# Altium footprint library 封装.PcbLib: 10 footprints
Each footprint in its own frame and in the unit in brackets; x right, y up, seen from the top. Pads: shape width x height; smd on the part's side, far side on the other; paste and mask are expansions set on the pad; w line width, h text height; cw(c..) or ccw(c..) is an arc to the next point about the centre after c.
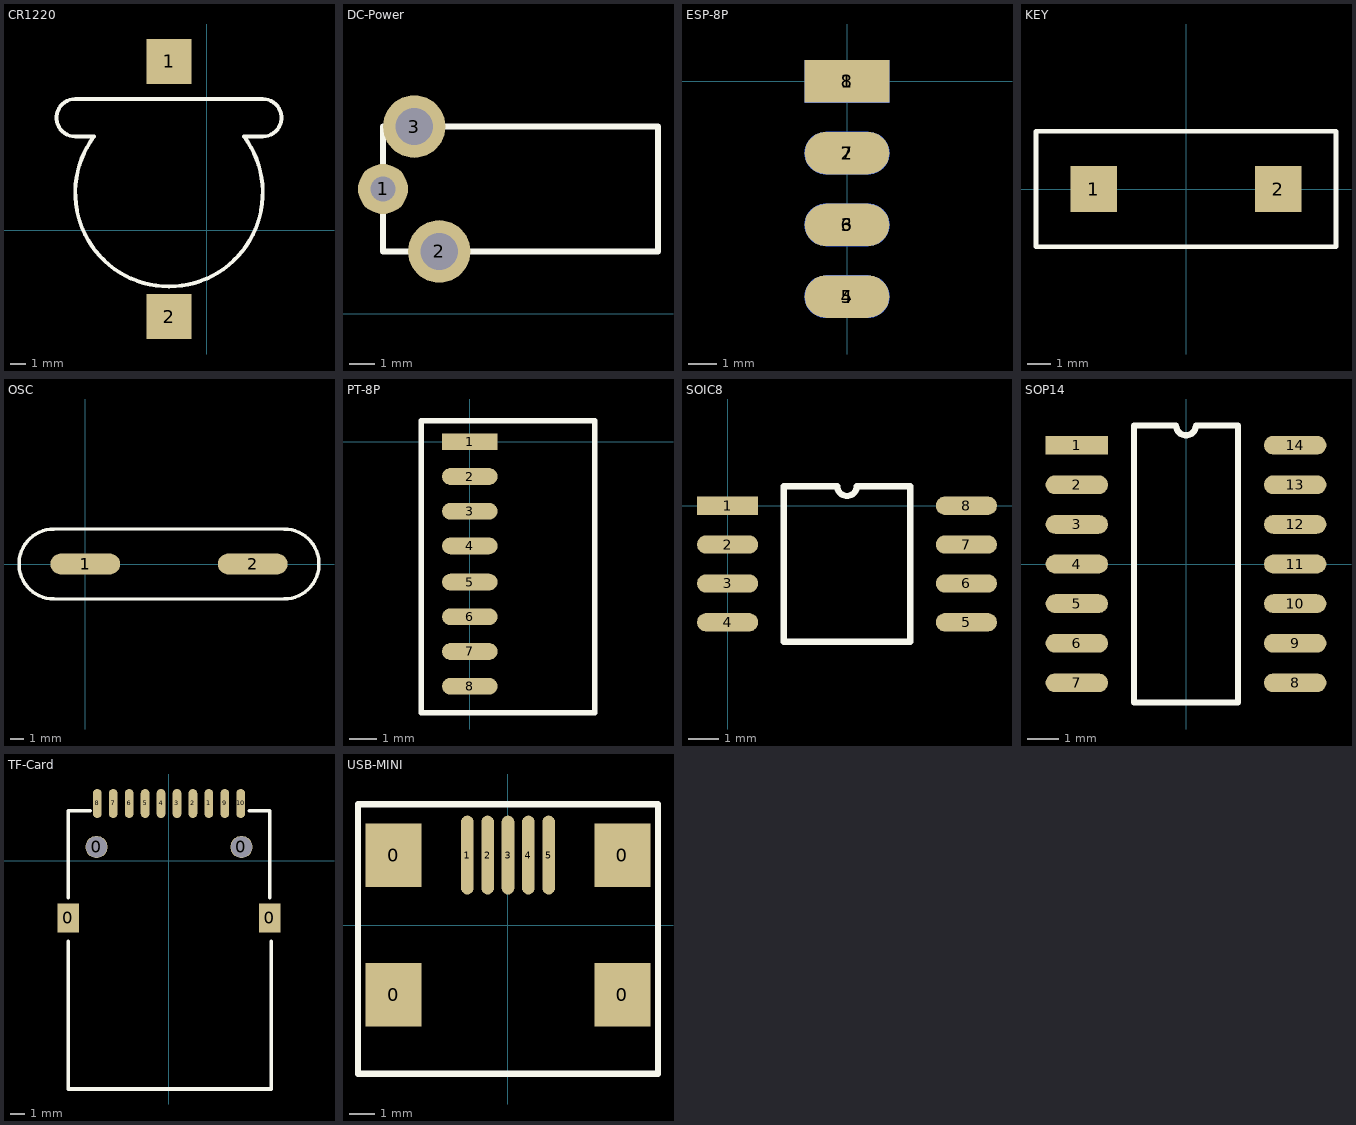
[diagram p0: the footprints below, top view; thin cyan lines are the x and y axes]

## CR1220 [mm]
pads (2):
  rect 3x3 smd: 1(-2.5,11.25) 2(-2.5,-5.75)
Top Overlay:
  lines w0.254: -8.75,6.25 cw(c-8.75,7.5) -8.75,8.75 3.75,8.75 cw(c3.75,7.5) 3.75,6.25 2.5,6.25 cw(c-2.5,2.5) -7.5,6.25 -8.75,6.25

## DC-Power [mm]
pads (3):
  round 2 hole 1: 1(-12.5,5)
  round 2.5 hole 1.5: 2(-10.25,2.5) 3(-11.25,7.5)
Top Overlay:
  lines w0.254: -12.5,2.5 -12.5,7.5 -1.5,7.5 -1.5,2.5 -12.5,2.5

## ESP-8P [mm]
pads (8):
  rect 3x1.5 smd far side: 1(0,0)
  oval 3x1.5 smd far side: 2(0,-2.54) 3(0,-5.08) 4(0,-7.62)
  oval 3x1.5 smd: 5(0,-7.62) 6(0,-5.08) 7(0,-2.54)
  rect 3x1.5 smd: 8(0,0)

## KEY [mm]
pads (2):
  rect 2x2 smd: 1(-4,0) 2(4,0)
Top Overlay:
  lines w0.2: -6.5,-2.5 6.5,-2.5 6.5,2.5 -6.5,2.5 -6.5,0 -6.5,-2.5

## OSC [mm]
pads (2):
  oval 5x1.5 smd: 1(0,0) 2(12,0)
Top Overlay:
  lines w0.2: -2.25,-2.5 14.25,-2.5 ; -2.25,2.5 14.25,2.5
  lines w0.254: -2.25,-2.5 cw(c-2.25,0) -2.25,2.5 ; 14.25,-2.5 ccw(c14.25,0) 14.25,2.5

## PT-8P [mm]
pads (8):
  rect 2x0.6 smd: 1(0,0)
  oval 2x0.6 smd: 2(0,-1.25) 3(0,-2.5) 4(0,-3.75) 5(0,-5.05) 6(0,-6.3) 7(0,-7.55) 8(0,-8.8)
Top Overlay:
  lines w0.2: -1.75,-9.75 -1.75,0.75 4.5,0.75 4.5,-9.75 -1.75,-9.75

## SOIC8 [mm]
pads (8):
  rect 2x0.6 smd: 1(0,0)
  oval 2x0.6 smd: 2(0,-1.27) 3(0,-2.54) 4(0,-3.81) 5(7.8,-3.81) 6(7.8,-2.54) 7(7.8,-1.27) 8(7.8,0)
Top Overlay:
  lines w0.2: 1.835,-4.445 1.835,0.635 3.582,0.635 ccw(c3.9,0.635) 4.217,0.635 5.965,0.635 5.965,-4.445 1.835,-4.445

## SOP14 [mm]
pads (14):
  rect 2x0.6 smd: 1(-3.5,3.81)
  oval 2x0.6 smd: 2(-3.5,2.54) 3(-3.5,1.27) 4(-3.5,0) 5(-3.5,-1.27) 6(-3.5,-2.54) 7(-3.5,-3.81) 8(3.5,-3.81) 9(3.5,-2.54) 10(3.5,-1.27) 11(3.5,0) 12(3.5,1.27) 13(3.5,2.54) 14(3.5,3.81)
Top Overlay:
  lines w0.2: -1.665,-4.445 -1.665,4.445 -0.318,4.445 ccw(c0,4.445) 0.318,4.445 1.665,4.445 1.665,-4.445 -1.665,-4.445

## TF-Card [mm]
pads (14):
  rect 1.5x2 smd: 0(-6.95,-3.95) 0(6.95,-3.95)
  round 1.524 hole 1.45: 0(-5,0.95) 0(5,0.95)
  oval 0.6x2 smd: 1(2.75,3.95) 2(1.65,3.95) 3(0.55,3.95) 4(-0.55,3.95) 5(-1.65,3.95) 6(-2.75,3.95) 7(-3.85,3.95) 8(-4.95,3.95) 9(3.85,3.95) 10(4.95,3.95)
Top Overlay:
  lines w0.254: -6.95,-5.55 -6.95,-15.75 7.05,-15.75 7.05,-5.55 ; -6.95,-2.55 -6.95,3.45 -5.45,3.45 ; 5.55,3.45 6.95,3.45 6.95,-2.55

## USB-MINI [mm]
pads (9):
  rect 2.2x2.5 smd: 0(-4.5,-2.75) 0(-4.5,2.75) 0(4.5,-2.75) 0(4.5,2.75)
  oval 0.5x3.1 smd: 1(-1.6,2.75) 2(-0.8,2.75) 3(0,2.75) 4(0.8,2.75) 5(1.6,2.75)
Top Overlay:
  lines w0.254: -5.9,-5.85 -5.9,4.75 5.9,4.75 5.9,-5.85 -5.9,-5.85